# EAGLE library part METROMINI (library Sumobot)
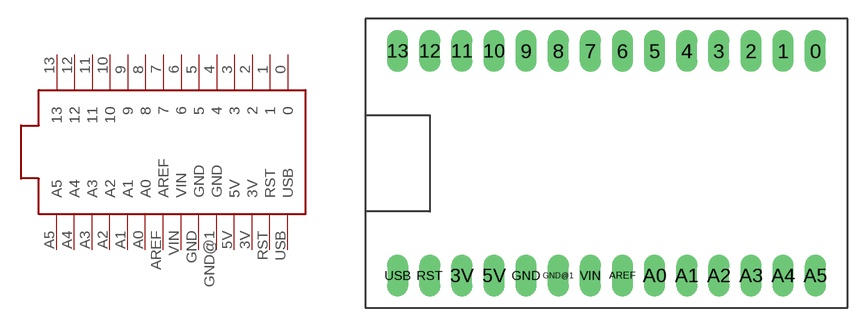
[diagram p0: symbol with the pads of METROMINI; footprint METROMINI]

Designator prefix -

## METROMINI  [METROMINI]
0  0
1  1
2  2
3  3
3V  3V
4  4
5  5
5V  5V
6  6
7  7
8  8
9  9
10  10
11  11
12  12
13  13
A0  A0
A1  A1
A2  A2
A3  A3
A4  A4
A5  A5
AREF  AREF
GND  GND
GND@1  GND
RST  RST
USB  USB
VIN  VIN

## Footprint METROMINI (pad centres in mm)
drill 1.016 pad 1.651 long: 0 17.78,7.62; 1 15.24,7.62; 2 12.7,7.62; 3 10.16,7.62; 3V -10.16,-10.16; 4 7.62,7.62; 5 5.08,7.62; 5V -7.62,-10.16; 6 2.54,7.62; 7 0,7.62; 8 -2.54,7.62; 9 -5.08,7.62; 10 -7.62,7.62; 11 -10.16,7.62; 12 -12.7,7.62; 13 -15.24,7.62; A0 5.08,-10.16; A1 7.62,-10.16; A2 10.16,-10.16; A3 12.7,-10.16; A4 15.24,-10.16; A5 17.78,-10.16; AREF 2.54,-10.16; GND -5.08,-10.16; GND@1 -2.54,-10.16; RST -12.7,-10.16; USB -15.24,-10.16; VIN 0,-10.16